# EAGLE library part APM2701AC (library Deegou_IC)
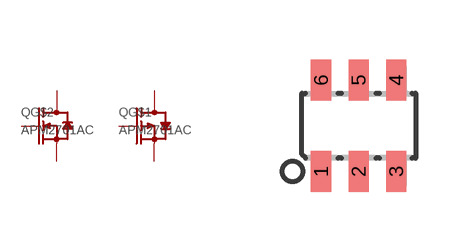
[diagram p161: symbol with the pads of SOT-26; footprint SOT-26]

Designator prefix Q; gates G$1=P-MOS G$2=N-MOS

## APM2701AC  [SOT-26]
1  G$2:G  pas
2  G$1:S  pas
3  G$1:G  pas
4  G$1:D  pas
5  G$2:S  pas
6  G$2:D  pas

## Footprint SOT-26 (pad centres in mm)
smd 0.508 x 1.016: 1 -0.94,-1.143; 2 0,-1.143; 3 0.94,-1.143; 4 0.94,1.143; 5 0,1.143; 6 -0.94,1.143